# EAGLE library part KK_HEADER_15V_KEN (library EW_00_Ken)
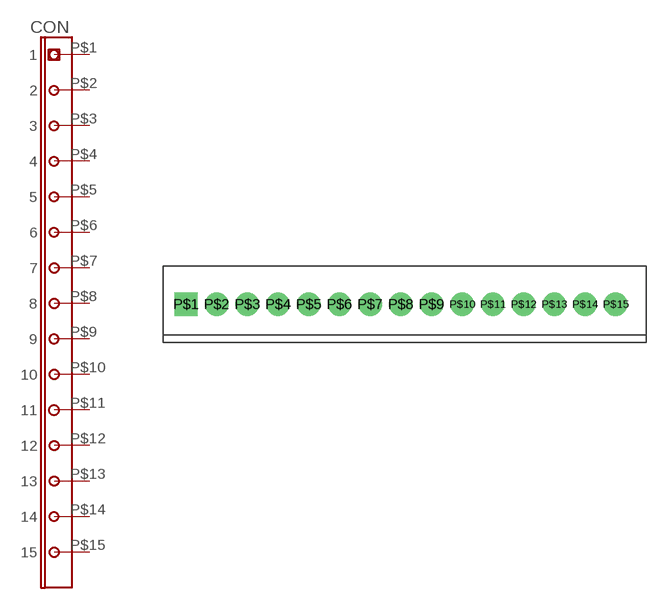
[diagram p20: symbol with the pads of KK_HEADER_15V_KEN; footprint KK_HEADER_15V_KEN]

Designator prefix CON

## KK_HEADER_15V_KEN  [KK_HEADER_15V_KEN]
P$1  1
P$2  2
P$3  3
P$4  4
P$5  5
P$6  6
P$7  7
P$8  8
P$9  9
P$10  10
P$11  11
P$12  12
P$13  13
P$14  14
P$15  15

## Footprint KK_HEADER_15V_KEN (pad centres in mm)
drill 1.2 pad 1.93 square: P$1 0,0
drill 1.2 pad 1.93: P$2 2.54,0; P$3 5.08,0; P$4 7.62,0; P$5 10.16,0; P$6 12.7,0; P$7 15.24,0; P$8 17.78,0; P$9 20.32,0; P$10 22.86,0; P$11 25.4,0; P$12 27.94,0; P$13 30.48,0; P$14 33.02,0; P$15 35.56,0